# Altium footprint library TSSOP-14(5x4.4).PcbLib: 1 footprints
Each footprint in its own frame and in the unit in brackets; x right, y up, seen from the top. Pads: shape width x height; smd on the part's side, far side on the other; paste and mask are expansions set on the pad; w line width, h text height; cw(c..) or ccw(c..) is an arc to the next point about the centre after c.
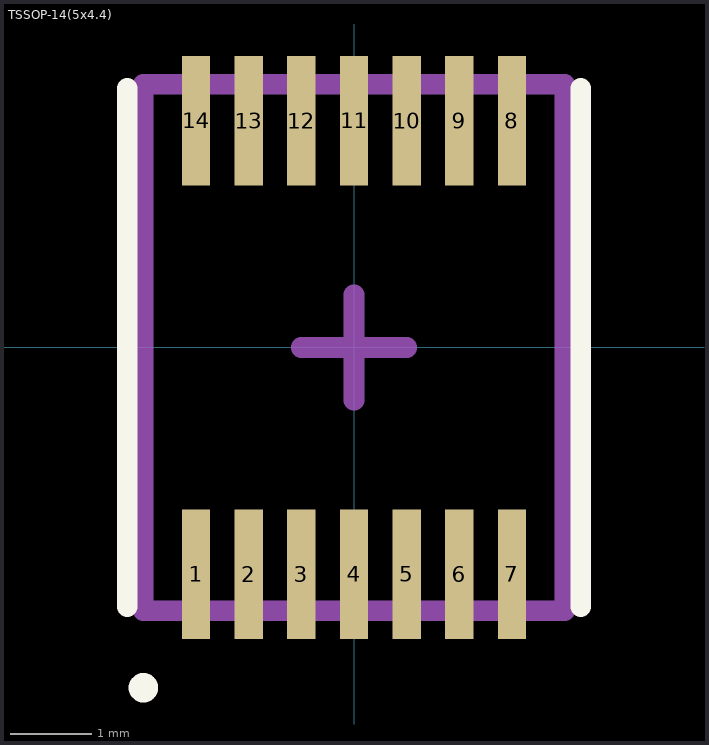
[diagram p0: the footprint, top view; thin cyan lines are the x and y axes]

## TSSOP-14(5x4.4) [mm]
pads (14):
  rect 0.35x1.6 smd mask+0.051: 1(-1.95,-2.8) 2(-1.3,-2.8) 3(-0.65,-2.8) 4(0,-2.8) 5(0.65,-2.8) 6(1.3,-2.8) 7(1.95,-2.8) 8(1.95,2.8) 9(1.3,2.8) 10(0.65,2.8) 11(0,2.8) 12(-0.65,2.8) 13(-1.3,2.8) 14(-1.95,2.8)
Top Overlay:
  circle w0.254: c-2.6,-4.2 r0.055
  lines w0.254: -2.8,-3.2 -2.8,3.2 ; 2.8,-3.2 2.8,3.2
Top Designator:
  text ".Designator" at -7.618,-0.873 h1.52
Mechanical 13:
  lines w0.254: -2.6,-3.25 -2.6,3.25 2.6,3.25 2.6,-3.25 -2.6,-3.25
Mechanical 15:
  lines w0.254: -0.65,0 0,0 ; 0,-0.65 0,0 ; 0,0.65 0,0 ; 0.65,0 0,0
3D body "SN74HC21PW.STEP": height 1.2, standoff 0, extent -2.5,-3.2 2.5,3.2